# EAGLE library part 5650118-3 (library 5650118-3)
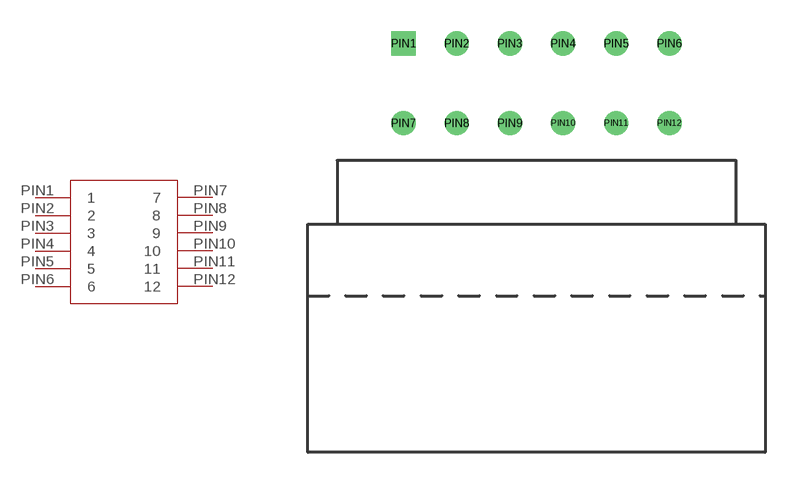
[diagram p0: symbol with the pads of 5650118-3; footprint 5650118-3]

Designator prefix -

## 5650118-3  [5650118-3]
PIN1  1
PIN2  2
PIN3  3
PIN4  4
PIN5  5
PIN6  6
PIN7  7
PIN8  8
PIN9  9
PIN10  10
PIN11  11
PIN12  12

## Footprint 5650118-3 (pad centres in mm)
drill 0.65 square: PIN1 -6.35,3.81
drill 0.65: PIN2 -3.81,3.81; PIN3 -1.27,3.81; PIN4 1.27,3.81; PIN5 3.81,3.81; PIN6 6.35,3.81; PIN7 -6.35,0; PIN8 -3.81,0; PIN9 -1.27,0; PIN10 1.27,0; PIN11 3.81,0; PIN12 6.35,0